# Altium schematic symbol library Inductors.SchLib: 2 symbols
Pins are listed as number, name and electrical type; pins without a type are passive.

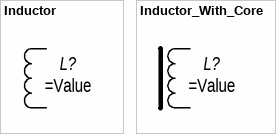
[diagram p0: symbols Inductor to Inductor_With_Core]

## Inductor
designator L?  (value not drawn)
HelpURL: *; Manufacturer: *; Value: =Value
footprint IND1210 (1210 CM322522 Package)
pins: 1, 2
5 alternate drawings of the same symbol

## Inductor_With_Core
designator L?  (value not drawn)
HelpURL: *; Manufacturer: *; Value: =Value
pins: 1, 2
1 alternate drawing of the same symbol